# Altium schematic symbol library capacitors.SchLib: 1 symbol
Pins are listed as number, name and electrical type; pins without a type are passive.

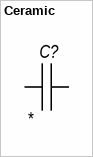
[diagram p0: symbol Ceramic]

## Ceramic
designator C?
Ceramic capacitor; Manufacturer: *; Mfr. Part Number: *; Help URL: *; Type: capacitor; Power/Voltage: *; Value: *; Tolerance: *; Operation Temperature: *; Note: *; Case: 0603
footprint CAPC1608X09N (Chip Capacitor, 2-Leads, Body 1,60x0,80mm, IPC Medium Density)
pins: 1 (power), 2 (power)